# Altium schematic symbol library SPEC_A7.SCHLIB: 116 symbols (part 2 of 3)
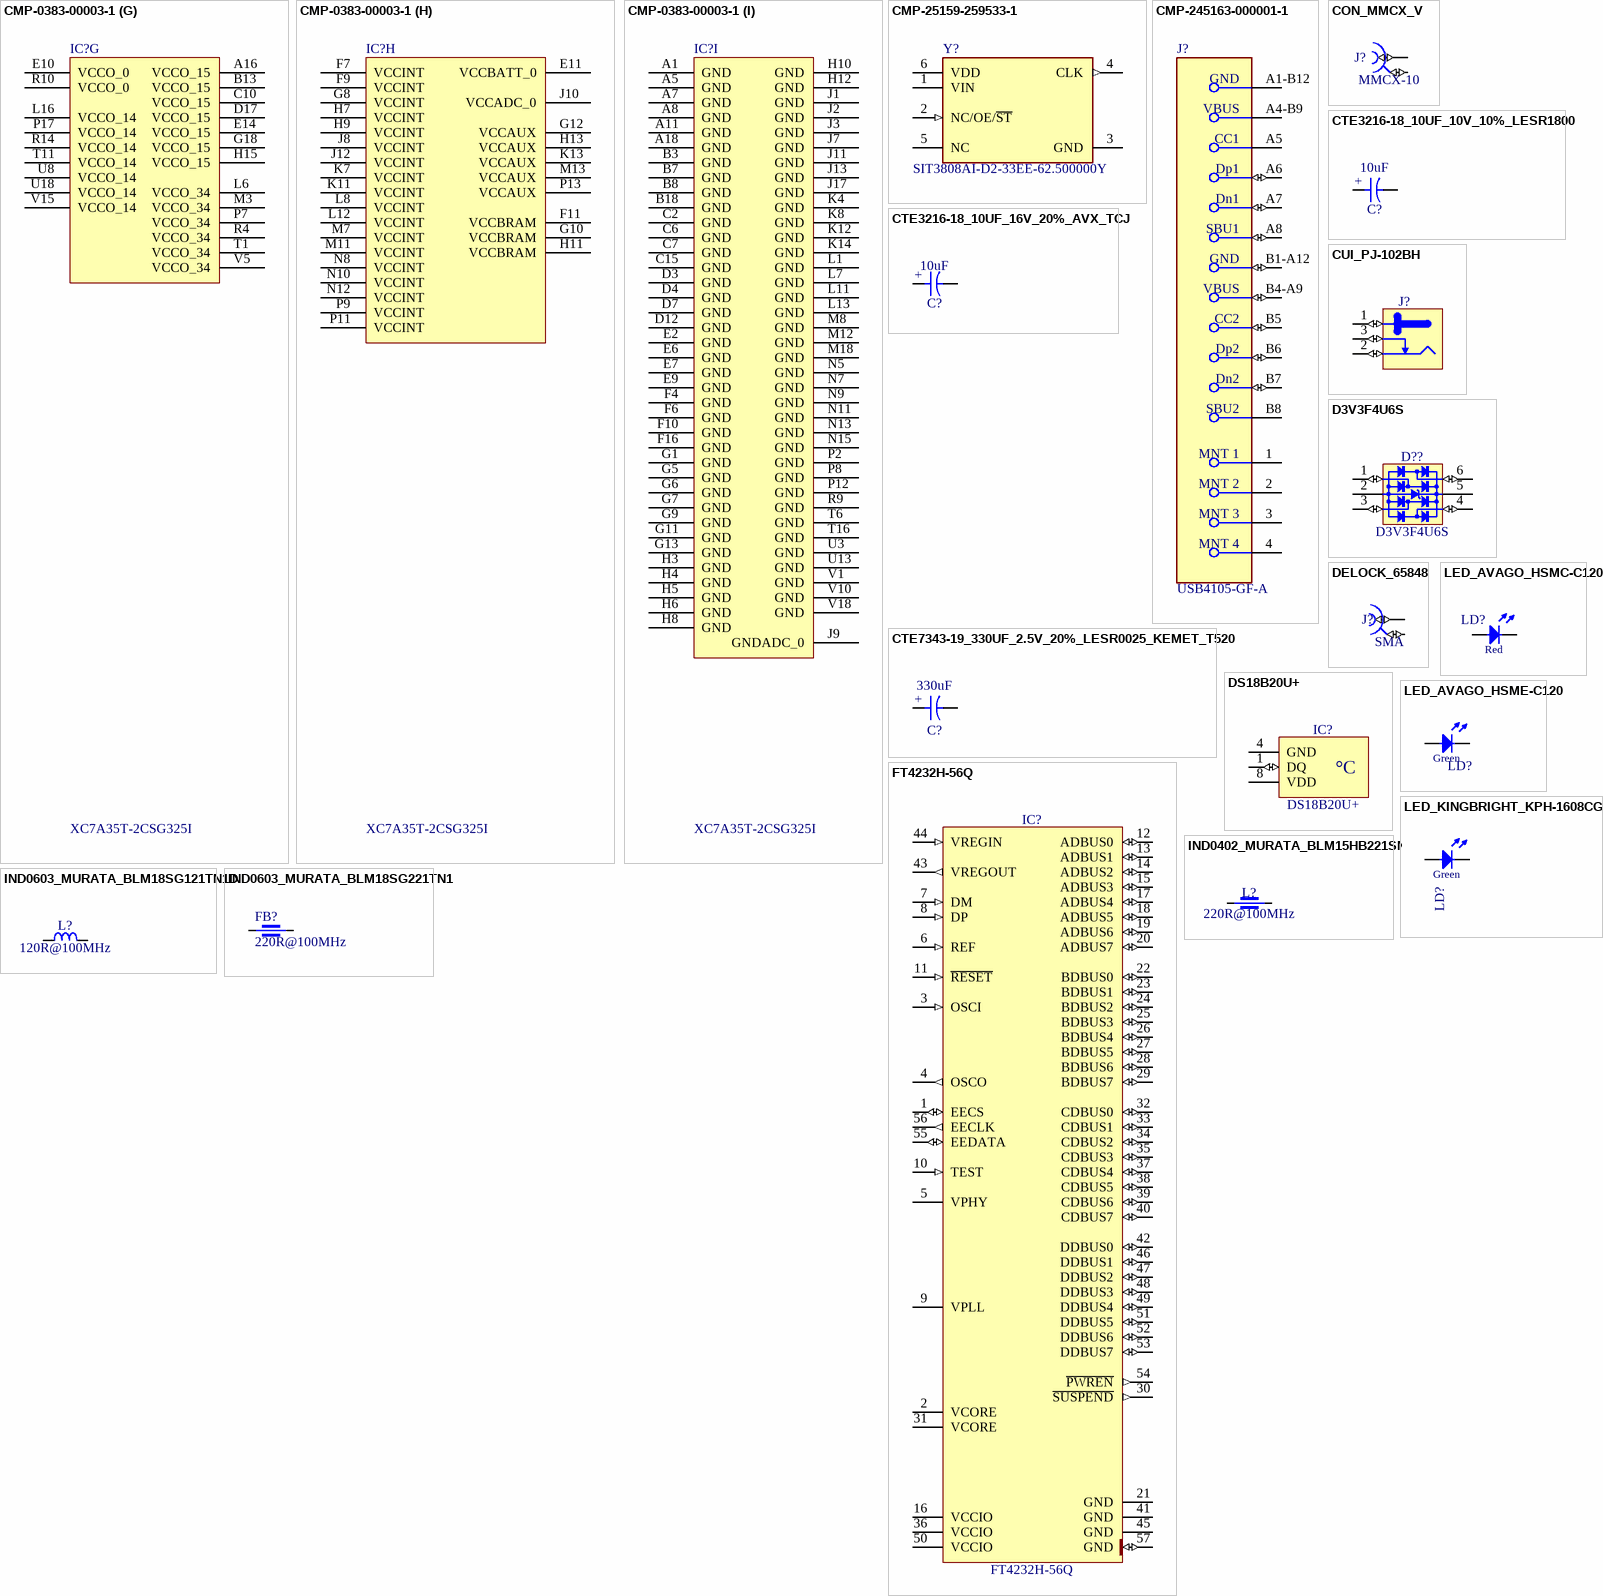
[diagram p5: symbols CMP-0383-00003-1 to LED_KINGBRIGHT_KPH-1608CGCK]

## D3V3F4U6S
designator D??
Integrated Quad Ultra-Low Capacitance ESD Protection; Part Description: 0.85pF 4 Channel Low Capacitance TVS Diode Array ESD; Manufacturer: DIODES INCORPORATED; Voltage: 8kV; PressFit: No; Bonding: No; Part Number: D3V3F4U6S; Component Kind: Standard; Component Type: Standard; Device: D3V3F4U6S; Footprint: SOT65P220X110-6N; PackageDescription: SOT363, SC70-6, 0.65mm Pitch; 6 pin, 1.25mm W X 2.00mm L X 1.10mm H body, IPC Medium Density; Manufacturer Part Number: D3V3F4U6S; Pin Count: 6; Case: SOT363; Mounted: Yes; Socket: No; SMD: Yes; Sense: No; ComponentHeight: 2.1mm; HelpURL: \\cern.ch\dfs\Applications\Altium\Datasheets\D3V3F4U6S.pdf; Author: CERN DEM HF; CreateDate: 28.11.2022; LatestRevisionDate: 28.11.2022
footprint SOT65P220X110-6N
pins: 1 I/O1 (io), 2 GND (power), 3 I/O2 (io), 4 I/O3 (io), 5 VBUS (power), 6 I/O4 (io)

## DELOCK_65848
designator J?, comment SMA
50 Ohm Through Hole SMA Right Angle PCB Jack; Part Number: DELOCK_65848; Manufacturer: DELOCK; Manufacturer Part Number: 5848 (4043619658480); PressFit: No; Component Kind: Standard; Component Type: Standard; Footprint: DELOCK_65848; Pin Count: 5; Family: SMA; Mounted: Yes; Socket: No; SMD: No; Sense: No; Status: None; Part Description: 50 Ohm Through Hole SMA Right Angle PCB Jack; ComponentHeight: 12.5; HelpURL: \\cern.ch\dfs\Applications\Altium\Datasheets\AMPHENOL_132203-16.pdf; Author: GK; CreateDate: 13.05.2019; LatestRevisionDate: 13.05.2019
footprint DELOCK_65848 (Footprint not found)
pins: 1 (io), 2 (io)

## DS18B20U+
designator IC?
Programmable Resolution 1-Wire Digital Thermometer; Part Description: Programmable Resolution 1-Wire Digital Thermometer (-55°C to +125°C); Manufacturer: DALLAS MAXIM; PressFit: No; Bonding: No; Part Number: DS18B20U+; Component Kind: Standard; Component Type: Standard; Device: DS18B20U+; Footprint: SOP65P490X110-8N; PackageDescription: SOP, 0.65mm Pitch; 8 Pin, 3.00mm W X 3.00mm L X 1.10mm H body, IPC Medium Density; Manufacturer Part Number: DS18B20U; Pin Count: 3; Case: uSOP8; Mounted: Yes; Socket: No; SMD: Yes; Sense: No; ComponentHeight: 1.1mm; HelpURL: \\cern.ch\dfs\Applications\Altium\Datasheets\DS18B20U+.pdf; Author: CERN DEM JLC; CreateDate: 17.03.2010; LatestRevisionDate: 22.06.2023
footprint SOP65P490X110-8N
pins: 1 DQ (io), 4 GND (power), 8 VDD (power)
text: °C

## FT4232H-56Q
designator IC?
Quad High Speed USB to Multipurpose UART/MPSSE IC; Manufacturer: FUTURE TECHNOLOGY DEVICES INTERNATIONAL (FTDI); PressFit: No; Bonding: No; Part Number: FT4232H-56Q; Component Kind: Standard; Component Type: Standard; Device: FT4232H-56Q; Footprint: QFN50P800X800X100-57N-S620; PackageDescription: QFN, 0.50mm Pitch, Square; 56 Pin, 8.00mm L X 8.00mm W X 1.00mm H body (6.1mm X 6.1mm Thermal tab), IPC Medium Density; Part Description: Quad High Speed USB to Multipurpose UART/MPSSE IC; Manufacturer Part Number: FT4232H-56Q; Pin Count: 57; Case: QFN56; Mounted: Yes; Socket: No; SMD: Yes; Sense: No; ComponentHeight: 1mm; Author: CERN DEM JLC; HelpURL: \\cern.ch\dfs\Applications\Altium\Datasheets\FT4232H-56Q.pdf; CreateDate: 11.10.2016; LatestRevisionDate: 11.10.2016
footprint QFN50P800X800X100-57N-S620
pins: 1 EECS (io), 2 VCORE (power), 3 OSCI (in), 4 OSCO (out), 5 VPHY (power), 6 REF (in), 7 DM (in), 8 DP (in), 9 VPLL (power), 10 TEST (in), 11 ~{RESET} (in), 12 ADBUS0 (io), 13 ADBUS1 (io), 14 ADBUS2 (io), 15 ADBUS3 (io), 16 VCCIO (power), 17 ADBUS4 (io), 18 ADBUS5 (io), 19 ADBUS6 (io), 20 ADBUS7 (io), 21 GND (power), 22 BDBUS0 (io), 23 BDBUS1 (io), 24 BDBUS2 (io), 25 BDBUS3 (io), 26 BDBUS4 (io), 27 BDBUS5 (io), 28 BDBUS6 (io), 29 BDBUS7 (io), 30 ~{SUSPEND} (out), 31 VCORE (power), 32 CDBUS0 (io), 33 CDBUS1 (io), 34 CDBUS2 (io), 35 CDBUS3 (io), 36 VCCIO (power), 37 CDBUS4 (io), 38 CDBUS5 (io), 39 CDBUS6 (io), 40 CDBUS7 (io), 41 GND (power), 42 DDBUS0 (io), 43 VREGOUT (out), 44 VREGIN (in), 45 GND (power), 46 DDBUS1 (io), 47 DDBUS2 (io), 48 DDBUS3 (io), 49 DDBUS4 (io), 50 VCCIO (power), 51 DDBUS5 (io), 52 DDBUS6 (io), 53 DDBUS7 (io), 54 ~{PWREN} (out), 55 EEDATA (io), 56 EECLK (out), 57 GND (io)

## IND0402_MURATA_BLM15HB221SN1
designator L?, comment 220R@100MHz
Part Number: IND0402_MURATA_BLM15HB221SN1; Part Description: SMD EMIFIL Suppression Chip Ferrite Bead; Manufacturer: MURATA; Manufacturer Part Number: BLM15HB221SN1; Power: 250mA; Resistance: 1R; Tolerance: ±25%; Component Kind: Standard; Component Type: Standard; Footprint: INDC1005X55N; Pin Count: 2; Value: 220R@100MHz; Status: None; Case: 0402; Mounted: Yes; Socket: No; SMD: Yes; Sense: No; ComponentHeight: 0.55mm; HelpURL: \\cern.ch\dfs\Applications\Altium\Datasheets\IND0402_MURATA_BLM15H.pdf; Author: CERN DEM JLC; CreateDate: 23.06.2009; LatestRevisionDate: 25.10.2018
footprint INDC1005X55N
pins: 1, 2
1 alternate drawing of the same symbol

## IND0603_MURATA_BLM18SG121TN1D
designator L?, comment 120R@100MHz
Inductor; Part Number: IND0603_MURATA_BLM18SG121TN1D; Part Description: SMD EMIFIL Suppression Chip Ferrite Bead; Manufacturer: MURATA; Manufacturer Part Number: BLM18SG121TN1D; Power: 3A; Resistance: 0.025R; Tolerance: ±25%; Component Kind: Standard; Component Type: Standard; Footprint: INDC1608X65N; Pin Count: 2; Value: 120R@100MHz; Status: None; Case: 0603; Mounted: Yes; Socket: No; SMD: Yes; Sense: No; ComponentHeight: 0.65mm; HelpURL: \\cern.ch\dfs\Applications\Altium\Datasheets\IND0603_MURATA_BLM18S.pdf; Author: CERN DEM JLC; CreateDate: 23.07.2014; LatestRevisionDate: 23.07.2014
footprint INDC1608X65N
pins: 1, 2

## IND0603_MURATA_BLM18SG221TN1
designator FB?, comment 220R@100MHz
Part Number: IND0603_MURATA_BLM18SG221TN1; Part Description: SMD EMIFIL Suppression Chip Ferrite Bead; Manufacturer: MURATA; Manufacturer Part Number: BLM18SG221TN1; Tolerance: ±25%; Power: 2.5A; Resistance: 0.04R; Component Kind: Standard; Component Type: Standard; Footprint: INDC1608X95N; Pin Count: 2; Value: 220R@100MHz; Case: 0603; Mounted: Yes; Socket: No; SMD: Yes; Sense: No; ComponentHeight: 0.95mm; HelpURL: \\cern.ch\dfs\Applications\Altium\Datasheets\IND0603_MURATA_BLM18S.pdf; Author: CERN DEM MR; CreateDate: 08.01.2016; LatestRevisionDate: 25.10.2018
footprint INDC1608X95N
pins: 1, 2
1 alternate drawing of the same symbol

## LED_AVAGO_HSMC-C120
designator LD?, comment Red
LED Red 1C 2A; Part Number: LED_AVAGO_HSMC-C120; Part Description: High Performance Right Angle Chip Red LED; Manufacturer: AVAGO TECHNOLOGIES; Manufacturer Part Number: HSMC-C120; PressFit: No; Bonding: No; Component Kind: Standard; Component Type: Standard; Color: Red; Footprint: LED_AVAGO_HSMC-C120; PackageDescription: Red Chip LED, 2-Leads, Body 1.7x1.1mm, Side Emitting Package; Pin Count: 2; Mounted: Yes; Socket: No; SMD: Yes; Sense: No; ComponentHeight: 0.7mm; HelpURL: \\cern.ch\dfs\Applications\Altium\Datasheets\LED_AVAGO_HSMC-C120.pdf; ComponentLink1URL: \\cern.ch\dfs\Applications\Altium\Datasheets\LED_AVAGO_HSMC-C120_DESIGN-GUIDE.pdf; ComponentLink1Description: Design Guide; Author: CERN DEM JMW; CreateDate: 22.07.2009; LatestRevisionDate: 20.06.2012
footprint LED_AVAGO_HSMC-C120
pins: 1 C, 2 A
1 alternate drawing of the same symbol

## LED_AVAGO_HSME-C120
designator LD?, comment Green  (value not drawn)
LED Green 1C 2A; Part Number: LED_AVAGO_HSME-C120; Part Description: High Performance Right Angle Chip Green LED; Manufacturer: AVAGO TECHNOLOGIES; Manufacturer Part Number: HSME-C120; PressFit: No; Bonding: No; Component Kind: Standard; Component Type: Standard; Color: Green; Footprint: LED_AVAGO_HSME-C120; PackageDescription: Green Chip LED, 2-Leads, Body 1.7x1.1mm, Side Emitting Package; Pin Count: 2; Mounted: Yes; Socket: No; SMD: Yes; Sense: No; ComponentHeight: 0.7mm; HelpURL: \\cern.ch\dfs\Applications\Altium\Datasheets\LED_AVAGO_HSME-C120.pdf; ComponentLink1URL: \\cern.ch\dfs\Applications\Altium\Datasheets\LED_AVAGO_HSME-C110_DESIGN-GUIDE.pdf; ComponentLink1Description: Design Guide; Author: CERN DEM JMW; CreateDate: 22.07.2009; LatestRevisionDate: 20.06.2012
footprint LED_AVAGO_HSME-C120
pins: 1 C, 2 A

## LED_KINGBRIGHT_KPH-1608CGCK
designator LD?, comment Green
LED Green 1C 2A; Manufacturer Part Number: KPH-1608CGCK; Part Number: LED_KINGBRIGHT_KPH-1608CGCK; Part Description: SMD Green LED, Case 1.6mmX0.8mm(0603), 0.65mm Thickness; Manufacturer: KINGBRIGHT; PressFit: No; Bonding: No; ComponentHeight: 0.65mm; HelpURL: \\cern.ch\dfs\Applications\Altium\Datasheets\LED_KINGBRIGHT_KPH-1608CGCK.pdf; Component Kind: Standard; Component Type: Standard; Color: Green; Footprint: LED_KINGBRIGHT_KPH-1608CGCK; PackageDescription: SMT Green LED, Case 0603, Body L 1.6 x W 0.8mm H 0.65mm; Pin Count: 2; Mounted: Yes; Socket: No; SMD: Yes; Sense: No; Author: CERN DEM JLC; CreateDate: 03.07.2017; LatestRevisionDate: 03.07.2017
footprint LED_KINGBRIGHT_KPH-1608CGCK
pins: 1 C, 2 A
1 alternate drawing of the same symbol

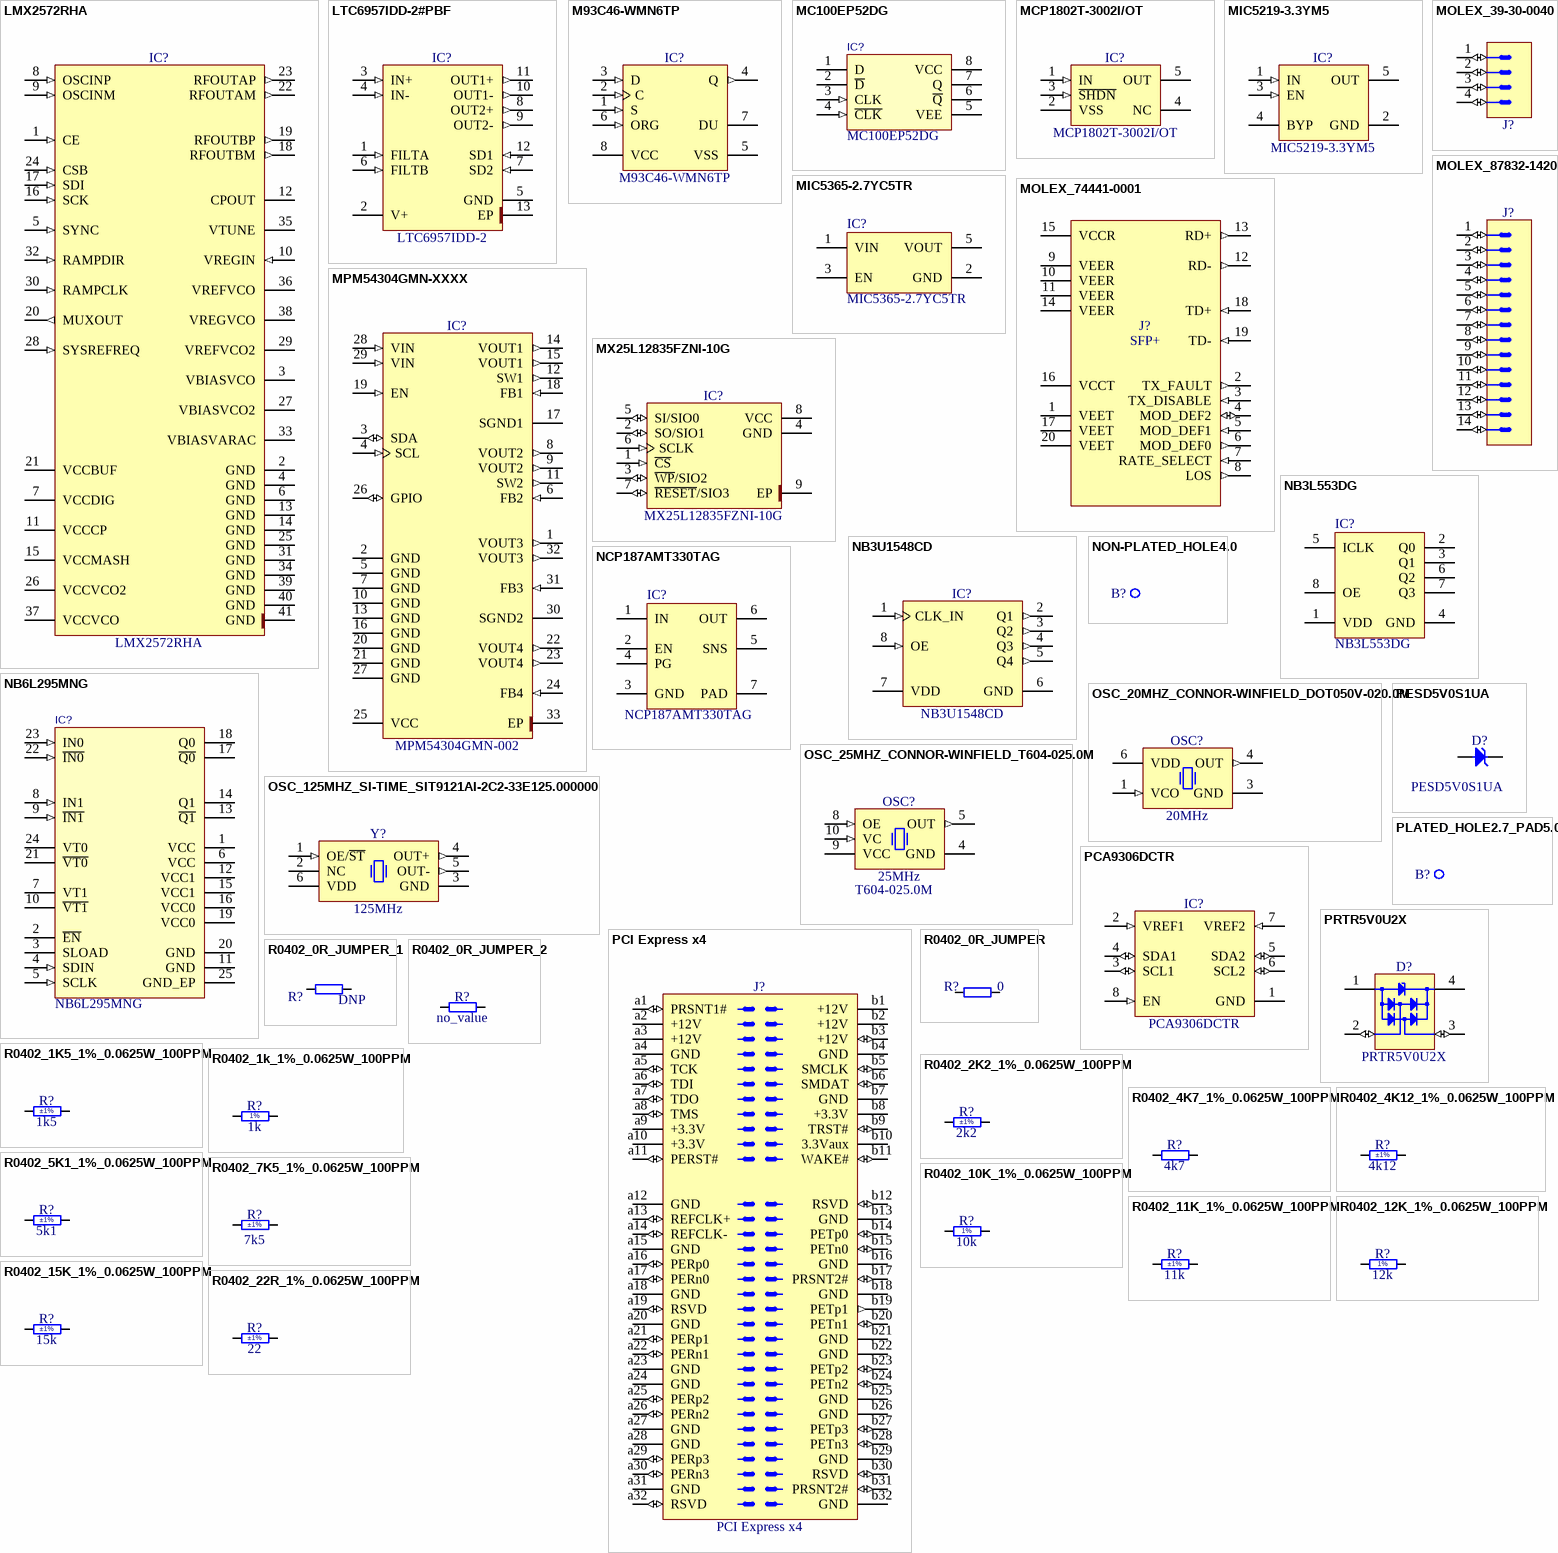
[diagram p3: symbols LMX2572RHA to R0402_22R_1%_0.0625W_100PPM]

## LMX2572RHA
designator IC?
15GHz Wideband PLLatinum RF Synthesizer with Phase Synchronization and JESD204B Support; Part Description: Low power wideband RF synthesizer with phase synchronization and JESD204B support; Manufacturer: TEXAS INSTRUMENTS; PressFit: No; Bonding: No; Part Number: LMX2572RHA; Component Kind: Standard; Component Type: Standard; Device: LMX2572RHA; Footprint: QFN50P600X600X100-41N-S460; PackageDescription: QFN, 0.50mm Pitch, Square; 40 Pin, 6.00mm L X 6.00mm W X 1.00mm H body (w/Thermal Tab 4.60 x 4.60mm), IPC Medium Density; Manufacturer Part Number: LMX2572RHA; Pin Count: 41; Case: QFN40; Mounted: Yes; Socket: No; SMD: Yes; Sense: No; ComponentHeight: 1mm; Author: CERN DEM HF; HelpURL: \\cern.ch\dfs\Applications\Altium\Datasheets\LMX2572.pdf; CreateDate: 15.04.2024; LatestRevisionDate: 15.04.2024
footprint QFN50P600X600X100-41N-S460
pins: 1 CE (in), 2 GND (power), 3 VBIASVCO, 4 GND (power), 5 SYNC (in), 6 GND (power), 7 VCCDIG (power), 8 OSCINP (in), 9 OSCINM (in), 10 VREGIN (in), 11 VCCCP (power), 12 CPOUT, 13 GND (power), 14 GND (power), 15 VCCMASH (power), 16 SCK (in), 17 SDI (in), 18 RFOUTBM (out), 19 RFOUTBP (out), 20 MUXOUT (out), 21 VCCBUF (power), 22 RFOUTAM (out), 23 RFOUTAP (out), 24 CSB (in), 25 GND (power), 26 VCCVCO2 (power), 27 VBIASVCO2, 28 SYSREFREQ (in), 29 VREFVCO2, 30 RAMPCLK (in), 31 GND (power), 32 RAMPDIR (in), 33 VBIASVARAC, 34 GND (power), 35 VTUNE, 36 VREFVCO, 37 VCCVCO (power), 38 VREGVCO, 39 GND (power), 40 GND (power), 41 GND (power)

## LTC6957IDD-2#PBF
designator IC?, comment LTC6957IDD-2
Low Phase Noise, Dual Output Buffer/Driver/Logic Converter, LVDS Logic Outputs; Part Number: LTC6957IDD-2#PBF; Manufacturer: LINEAR TECHNOLOGY; PressFit: No; Bonding: No; Component Kind: Standard; Component Type: Standard; Device: LTC6957IDD-2; Footprint: SON45P300X300X80-13N-R175X248; PackageDescription: SON, 0.45mm Pitch; 12 Pin, 3.00mm W X 3.00mm L X 0.80mm H Body (w/Thermal tab 1.75 x 2.48mm), IPC Medium Density; Part Description: Low Phase Noise, Dual Output Buffer/Driver/Logic Converter, LVDS Logic Outputs; Manufacturer Part Number: LTC6957IDD-2; Pin Count: 13; Case: SON12; Mounted: Yes; Socket: No; SMD: Yes; Sense: No; ComponentHeight: 0.8mm; Author: CERN DEM MR; HelpURL: \\cern.ch\dfs\Applications\Altium\Datasheets\LTC6957IDD-2#PBF.pdf; CreateDate: 12.09.2016; LatestRevisionDate: 02.02.2022
footprint SON45P300X300X80-13N-R175X248
pins: 1 FILTA (in), 2 V+ (power), 3 IN+ (in), 4 IN- (in), 5 GND (power), 6 FILTB (in), 7 SD2 (in), 8 OUT2+ (out), 9 OUT2- (out), 10 OUT1- (out), 11 OUT1+ (out), 12 SD1 (in), 13 EP (power)

## M93C46-WMN6TP
designator IC?
2.5 to 5.5 V, 1Kb (128x8) Serial Microwire Bus EEPROM; Part Description: 1Kbit (128 x 8 bit or 64 x 16 bit) MICROWIRE® Serial Access EEPROM; Manufacturer: ST MICROELECTRONICS; PressFit: No; Bonding: No; Part Number: M93C46-WMN6TP; Component Kind: Standard; Component Type: Standard; Device: M93C46-WMN6TP; Footprint: SOIC127P600X175-8N; PackageDescription: SOIC 8, Pitch 1.27mm - Body 4x5mm, IPC Medium Density; Manufacturer Part Number: M93C46-WMN6TP; Pin Count: 8; Case: SOIC8; Mounted: Yes; Socket: No; SMD: Yes; Sense: No; ComponentHeight: 1.75mm; HelpURL: \\cern.ch\dfs\Applications\Altium\Datasheets\M93C46-WMN6TP.pdf; Author: CERN DEM JLC; CreateDate: 15.11.2012; LatestRevisionDate: 15.11.2012
footprint SOIC127P600X175-8N
pins: 1 S (in), 2 C (in), 3 D (in), 4 Q (out), 5 VSS (power), 6 ORG (in), 7 DU, 8 VCC (power)

## MC100EP52DG
designator IC?
Manufacturer_Name: onsemi; Reference: IC; Footprint: SOIC127P600X175-8N; Datasheet: http://www.onsemi.com/pub/Collateral/MC10EP52-D.PDF; Height: 1.75; Mouser Part Number: 863-MC100EP52DG; Mouser Price/Stock: https://www.mouser.co.uk/ProductDetail/onsemi/MC100EP52DG?qs=zorda86t5M%2FLiRmjo16XeQ%3D%3D; Manufacturer_Part_Number: MC100EP52DG; Value: MC100EP52DG
footprint SOIC127P600X175-8N (SOIC 8, Pitch 1.27mm - Body 4x5mm, IPC Medium Density)
pins: 1 D, 2 ~{D}, 3 CLK (in), 4 ~{CLK} (in), 5 VEE, 6 ~{Q}, 7 Q, 8 VCC (power)

## MCP1802T-3002I/OT
designator IC?
300mA, High PSRR, Low Quiescent Current LDO; Part Description: 3V, 300mA, High PSRR, Low Quiescent Current LDO; Manufacturer: MICROCHIP TECHNOLOGY; PressFit: No; Bonding: No; Part Number: MCP1802T-3002I/OT; Component Kind: Standard; Component Type: Standard; Device: MCP1802T-3002I/OT; Footprint: SOT95P270X145-5N; PackageDescription: SOT, 0.95mm Pitch; 5 Pin,1.55mm W X 2.90mm L X 1.45mm H body, IPC Medium Density; Manufacturer Part Number: MCP1802T-3002I/OT; Pin Count: 3; Case: SOT23-5; Mounted: Yes; Socket: No; SMD: Yes; Sense: No; ComponentHeight: 1.45mm; HelpURL: \\cern.ch\dfs\Applications\Altium\Datasheets\MCP1802T-3002I-OT.pdf; Author: CERN DEM JLC; CreateDate: 03.05.2012; LatestRevisionDate: 17.09.2014
footprint SOT95P270X145-5N
pins: 1 IN (in), 2 VSS (power), 3 ~{SHDN} (in), 4 NC, 5 OUT (power)

## MIC5219-3.3YM5
designator IC?
500mA Peak Output LDO Regulator; Part Description: 3.3V 500mA Peak Output Low Drop-Out  (LDO) Regulator; Manufacturer: MICROCHIP TECHNOLOGY; PressFit: No; Bonding: No; Part Number: MIC5219-3.3YM5; Component Kind: Standard; Component Type: Standard; Device: MIC5219-3.3YM5; Footprint: SOT95P280X145-5N; PackageDescription: SOT, 0.95mm pitch; 5 pin, 1.60mm W X 2.90mm L X 1.45mm H body, IPC Medium Density; Manufacturer Part Number: MIC5219-3.3YM5; Pin Count: 5; Case: SOT23-5; Mounted: Yes; Socket: No; SMD: Yes; Sense: No; ComponentHeight: 1.45mm; HelpURL: \\cern.ch\dfs\Applications\Altium\Datasheets\MIC5219-3.3YM5.pdf; Author: CERN DEM WB; CreateDate: 2019-04-16; LatestRevisionDate: 2019-04-16
footprint SOT95P280X145-5N
pins: 1 IN (in), 2 GND (power), 3 EN (in), 4 BYP, 5 OUT (power)

## MIC5365-2.7YC5TR
designator IC?
footprint SOT65P210X110-5N (SOT353, SC70-5, SOT, 0.65mm Pitch, 5 Pin, 1.25mm W X 2.00mm L X 1.10mm H, IPC Medium Density)
pins: 1 VIN, 2 GND, 3 EN, 5 VOUT

## MOLEX_39-30-0040
designator J?, comment Mini-Fit Jr.™  (value not drawn)
Connector 4 Male; Part Number: MOLEX_39-30-0040; Part Description: 4.20mm (.165") Pitch Mini-Fit Jr. Header, Dual Row, Right Angle with Snap-in Plastic Peg PCB Lock, 4 Circuits; Manufacturer: MOLEX; PressFit: No; Component Kind: Standard; Component Type: Standard; Footprint: MOLEX_39-30-0040; Pin Count: 4; Family: Mini-Fit Jr.™; Mounted: Yes; Socket: No; SMD: No; Sense: No; Status: None; Manufacturer Part Number: 39-30-0040; ComponentHeight: 11.4mm; HelpURL: \\cern.ch\dfs\Applications\Altium\Datasheets\MOLEX_39-30-0040.pdf; Author: CERN DEM JLC; CreateDate: 2018-10-02; LatestRevisionDate: 2018-10-02
footprint MOLEX_39-30-0040
pins: 1 (io), 2 (io), 3 (io), 4 (io)
1 alternate drawing of the same symbol

## MOLEX_74441-0001
designator J?, comment SFP+
20 Position SFP  Connector (Small Form-factor Pluggable); Part Number: MOLEX_74441-0001; Part Description: 20 Position, Pitch 0.8mm SFP Receptacle (Small Form-factor Pluggable); Manufacturer: MOLEX; Manufacturer Part Number: 74441-0001; PressFit: No; Component Kind: Standard; Component Type: Standard; Footprint: MOLEX_74441-0001; Pin Count: 20; Family: SFP+; Mounted: Yes; Socket: No; SMD: Yes; Sense: No; Status: None; ComponentHeight: 5.4mm; HelpURL: \\cern.ch\dfs\Applications\Altium\Datasheets\MOLEX_74441-0001.pdf; ComponentLink1URL: \\cern.ch\dfs\Applications\Altium\Datasheets\MOLEX_SFP_Application.pdf; ComponentLink1Description: Application; Author: CERN DEM MR; CreateDate: 03.12.2015; LatestRevisionDate: 03.12.2015
footprint MOLEX_74441-0001
pins: 1 VEET (power), 2 TX_FAULT (out), 3 TX_DISABLE (in), 4 MOD_DEF2 (io), 5 MOD_DEF1 (in), 6 MOD_DEF0 (out), 7 RATE_SELECT (in), 8 LOS (out), 9 VEER (power), 10 VEER (power), 11 VEER (power), 12 RD- (out), 13 RD+ (out), 14 VEER (power), 15 VCCR (power), 16 VCCT (power), 17 VEET (power), 18 TD+ (in), 19 TD- (in), 20 VEET (power)

## MOLEX_87832-1420
designator J?, comment Milli-Grid™  (value not drawn)
Connector 14 Male; Part Number: MOLEX_87832-1420; Part Description: 2.00mm (.079") Pitch Milli-Grid™ Header, Surface Mount, Vertical, Shrouded, 14 Circuits,with Locking Windows and Centre Polarization Slot, PCB Locator; Manufacturer: MOLEX; Manufacturer Part Number: 87832-1420; PressFit: No; Component Kind: Standard; Component Type: Standard; Footprint: MOLEX_87832-1420; Pin Count: 14; Family: Milli-Grid™; Mounted: Yes; Socket: No; SMD: Yes; Sense: No; Status: None; ComponentHeight: 7.6mm; HelpURL: \\cern.ch\dfs\Applications\Altium\Datasheets\MOLEX_87832-1420.pdf; Author: CERN DEM JLC; CreateDate: 09.09.2008; LatestRevisionDate: 09.09.2008
footprint MOLEX_87832-1420
pins: 1 (io), 2 (io), 3 (io), 4 (io), 5 (io), 6 (io), 7 (io), 8 (io), 9 (io), 10 (io), 11 (io), 12 (io), 13 (io), 14 (io)
1 alternate drawing of the same symbol

## MPM54304GMN-XXXX
designator IC?, comment MPM54304GMN-002
Quad-Output Power Module with I2C and MTP; Part Description: 4V to 16V Input, Quad-Output Power Module with I2C and MTP; Manufacturer: MPS (MONOLITIC  POWER SYSTEMS); PressFit: No; Bonding: No; Part Number: MPM54304GMN-002; Component Kind: Standard; Component Type: Standard; Device: MPM54304GMN-002; Footprint: MPS_MPM54304GMN; PackageDescription: MPS LGA-33 Case, 0.65mm Pitch, Rect.; 32 Pin, 7.00mm L X 7.00mm W X 2.10mm H body (w/Thermal Tab 3.55 X 3.55mm); Manufacturer Part Number: MPM54304GMN-002; Pin Count: 33; Case: QFN32; Mounted: Yes; Socket: No; SMD: Yes; Sense: No; ComponentHeight: 2.1mm; HelpURL: \\cern.ch\dfs\Applications\Altium\Datasheets\MPM54304GMN.pdf; Author: CERN DEM BC; CreateDate: 09.11.2020; LatestRevisionDate: 23.11.2022
footprint MPS_MPM54304GMN
pins: 1 VOUT3 (out), 2 GND (power), 3 SDA (io), 4 SCL (in), 5 GND (power), 6 FB2 (in), 7 GND (power), 8 VOUT2 (out), 9 VOUT2 (out), 10 GND (power), 11 SW2 (out), 12 SW1 (out), 13 GND (power), 14 VOUT1 (out), 15 VOUT1 (out), 16 GND (power), 17 SGND1 (power), 18 FB1 (in), 19 EN (in), 20 GND (power), 21 GND (power), 22 VOUT4 (out), 23 VOUT4 (out), 24 FB4 (in), 25 VCC (power), 26 GPIO (io), 27 GND (power), 28 VIN (in), 29 VIN (in), 30 SGND2 (power), 31 FB3 (in), 32 VOUT3 (out), 33 EP (power)

## MX25L12835FZNI-10G
designator IC?
128Mb, 3V, Serial Multi I/O Flash Memory; Part Description: 128Mb (16M x 8), 3V, CMOS MXSMIO® Serial Multi I/O Flash Memory; Manufacturer: MACRONIX; PressFit: No; Bonding: No; Part Number: MX25L12835FZNI-10G; Component Kind: Standard; Component Type: Standard; Device: MX25L12835FZNI-10G; Footprint: SON127P600X500X80-9N-R350X410; PackageDescription: SON, 1.27mm Pitch, 8 Pin, 6.00mm W X 5.00mm L X 0.80mm H body (w/Thermal Tab  3.50 X 4.10mm), IPC Medium Density; Manufacturer Part Number: MX25L12835FZNI-10G; Pin Count: 9; Case: SON8; Mounted: Yes; Socket: No; SMD: Yes; Sense: No; ComponentHeight: 2.16mm; HelpURL: \\cern.ch\dfs\Applications\Altium\Datasheets\MX25L12835.pdf; Author: CERN DEM HF; CreateDate: 16.04.2024; LatestRevisionDate: 16.04.2024
footprint SON127P600X500X80-9N-R350X410
pins: 1 ~{CS} (in), 2 SO/SIO1 (io), 3 ~{WP}/SIO2 (io), 4 GND (power), 5 SI/SIO0 (io), 6 SCLK (in), 7 ~{RESET}/SIO3 (io), 8 VCC (power), 9 EP (power)

## NB3L553DG
designator IC?
footprint SOIC127P600X175-8N (SOIC 8, Pitch 1.27mm - Body 4x5mm, IPC Medium Density)
pins: 1 VDD, 2 Q0, 3 Q1, 4 GND, 5 ICLK, 6 Q2, 7 Q3, 8 OE

## NB3U1548CD
designator IC?
3.3V/2.5V/1.8V/1.5V 160 MHz 1:4 LVCMOS/LVTTL Low Skew Over Voltage Tolerant Fanout Buffer; Manufacturer: ON SEMICONDUCTOR; PressFit: No; Bonding: No; Part Number: NB3U1548CD; Component Kind: Standard; Component Type: Standard; Device: NB3U1548CD; Footprint: SOIC127P600X175-8N; PackageDescription: SOIC 8, Pitch 1.27mm, Body 4x5mm, IPC Medium Density; Part Description: 3.3V/2.5V/1.8V/1.5V 160 MHz 1:4 LVCMOS/LVTTL Low Skew Over Voltage Tolerant Fanout Buffer; Manufacturer Part Number: NB3U1548CD; Pin Count: 8; Case: SOIC8; Mounted: Yes; Socket: No; SMD: Yes; Sense: No; ComponentHeight: 1.75mm; Author: CERN DEM HF; HelpURL: \\cern.ch\dfs\Applications\Altium\Datasheets\NB3U1548C.pdf; CreateDate: 29.11.2024; LatestRevisionDate: 29.11.2024
footprint SOIC127P600X175-8N
pins: 1 CLK_IN (in), 2 Q1 (out), 3 Q2 (out), 4 Q3 (out), 5 Q4 (out), 6 GND (power), 7 VDD (power), 8 OE (in)

## NB6L295MNG
designator IC?
Manufacturer_Name: onsemi; Reference: IC?; Footprint: QFN50P400X400X100-25N; Datasheet: http://www.onsemi.com/pub/Collateral/NB6L295-D.PDF; Height: 1; Mouser Part Number: 863-NB6L295MNG; Mouser Price/Stock: https://www.mouser.co.uk/ProductDetail/ON-Semiconductor/NB6L295MNG?qs=t2BMfLoP1KTcOfiCXyq1Jw%3D%3D; Manufacturer_Part_Number: NB6L295MNG; Value: NB6L295MNG
footprint QFN50P400X400X80-25N-S280 (QFN,0.50mm Pitch, Square; 24 Pin, 4.00mm W X 4.00mm L X 0.80mm H body (w/Thermal Tab 2.80 X 2.80mm), IPC Medium Density)
pins: 1 VCC (power), 2 ~{EN}, 3 SLOAD, 4 SDIN (in), 5 SCLK (in), 6 VCC (power), 7 VT1, 8 IN1 (in), 9 ~{IN1} (in), 10 ~{VT1}, 11 GND (power), 12 VCC1 (power), 13 ~{Q1}, 14 Q1, 15 VCC1 (power), 16 VCC0 (power), 17 ~{Q0}, 18 Q0, 19 VCC0 (power), 20 GND (power), 21 ~{VT0}, 22 ~{IN0} (in), 23 IN0 (in), 24 VT0, 25 GND_EP (power)

## NCP187AMT330TAG
designator IC?
footprint SON65P200X200X80-7N-R110X170 (SON, 0.65mm, Pitch; 6 Pin,2.00mm W X 2.00mm L X 0.80mm H body (W/Thermal Tab 1.1mm X 1.7mm),  IPC Medium Density)
pins: 1 IN, 2 EN, 3 GND, 4 PG, 5 SNS, 6 OUT, 7 PAD

## NON-PLATED_HOLE4.0
designator B?, comment Non Plated Hole  (value not drawn)  (no BOM)
Single Terminal Socket; Part Number: NON-PLATED_HOLE4.0; Part Description: Non Plated Through Hole: Hole Dia.=4.0mm; Mounted: No; Component Type: Standard (No BOM); Footprint: MTG400; Pin Count: 1; Family: Non Plated Hole; Socket: No; SMD: No; Sense: No; Status: None; ComponentHeight: 0mm; HelpURL: Undefined; Author: CERN DEM JMW; CreateDate: 22.03.2019; LatestRevisionDate: 22.03.2019; PackageDescription: Non Plated Through Hole: Hole Dia.=4.0mm
footprint MTG400
pins: 1 (io)

## OSC_20MHZ_CONNOR-WINFIELD_DOT050V-020.0M
designator OSC?, comment 20MHz
Oscillator 4 pins 1=VCO 3=GND 4=OUT 6=VCC; Part Number: OSC_20MHZ_CONNOR-WINFIELD_DOT050V-020.0M; Part Description: 3.3V, ±0.05ppm, 15pF, 0 to 70°C, LVCMOS, Precision Surface Mount VCTCXO Temperature Compensated Crystal Oscillator, DOT050V Series; Manufacturer: CONNOR-WINFIELD; Manufacturer Part Number: DOT050V-020.0M; PressFit: No; Bonding: No; Component Kind: Standard; Component Type: Standard; Footprint: OSC_CONNOR-WINFIELD_DOT050V; PackageDescription: SMD VCTCXO, Side Concave, 6 Pins, 9.00mm x 14.0mm, DOT050V Series; Value: 20MHz; Pin Count: 6; Mounted: Yes; Socket: No; SMD: Yes; Sense: No; ComponentHeight: 6.86mm; HelpURL: \\cern.ch\dfs\Applications\Altium\Datasheets\OSC_CONNOR-WINFIELD_DOT050V.pdf; Author: CERN DEM BC; CreateDate: 04.11.2016; LatestRevisionDate: 04.11.2016
footprint OSC_CONNOR-WINFIELD_DOT050V
pins: 1 VCO (in), 3 GND (power), 4 OUT (out), 6 VDD (power)

## OSC_25MHZ_CONNOR-WINFIELD_T604-025.0M
designator OSC?, comment 25MHz  Manufacturer Part Number: T604-025.0M
Oscillator 4 pins 4=GND 5=OUT 8=OE 9=VCC 10=VC; Part Number: OSC_25MHZ_CONNOR-WINFIELD_T604-025.0M; Part Description: 3.3V, ±0.28ppm, 15pF, -40°C to 85°C, LVCMOS,  Precision Tri-State Surface Mount VCTCXO, T Series; Manufacturer: CONNOR-WINFIELD; PressFit: No; Bonding: No; Component Kind: Standard; Component Type: Standard; Footprint: OSC_CONNOR-WINFIELD_T; PackageDescription: SMD VCTCXO, Side Concave, 10 Pins, 5.00x7.00mm, T Series; Value: 25MHz; Pin Count: 10; Mounted: Yes; Socket: No; SMD: Yes; Sense: No; ComponentHeight: 2.4mm; HelpURL: \\cern.ch\dfs\Applications\Altium\Datasheets\OSC_CONNOR-WINFIELD_T.pdf; Author: CERN DEM MR; CreateDate: 12.09.2016; LatestRevisionDate: 22.04.2021
footprint OSC_CONNOR-WINFIELD_T
pins: 4 GND (power), 5 OUT (out), 8 OE (in), 9 VCC (power), 10 VC (in)

## OSC_125MHZ_SI-TIME_SIT9121AI-2C2-33E125.000000
designator Y?, comment 125MHz
Standard Frequency Differential Oscillator; Part Number: OSC_125MHZ_SI-TIME_SIT9121AI-2C2-33E125.000000; Part Description: 3.3V, ±25ppm, -40..85°C, 3.2x5.0mm Surface Mount LVDS High Performance Differential Oscillator (SIT9121 Series); Manufacturer: SI TIME; Manufacturer Part Number: SIT9121AI-2C2-33E125.000000; PressFit: No; Bonding: No; Component Kind: Standard; Component Type: Standard; Footprint: OSC_SI-TIME_SIT9121-C; PackageDescription: SiT9121 Series Package C, Oscillators, Version 3.2.0mm x 5.0mm, Pitch 1.27mm; 6 Pin; Value: 125MHz; Pin Count: 6; Mounted: Yes; Socket: No; SMD: Yes; Sense: No; ComponentHeight: 0.8mm; HelpURL: \\cern.ch\dfs\Applications\Altium\Datasheets\OSC_SI-TIME_SIT9121.pdf; Author: CERN DEM HF; CreateDate: 06.12.2024; LatestRevisionDate: 06.12.2024
footprint OSC_SI-TIME_SIT9121-C
pins: 1 OE/~{ST} (in), 2 NC, 3 GND (power), 4 OUT+ (out), 5 OUT- (out), 6 VDD (power)

## PCA9306DCTR
designator IC?
Dual Bidirectional I2C Bus And SMBus Voltage-Level Translator; Manufacturer: TEXAS INSTRUMENTS; PressFit: No; Bonding: No; Part Number: PCA9306DCTR; Component Kind: Standard; Component Type: Standard; Device: PCA9306DCTR; Footprint: SOP65P400X130-8N; PackageDescription: SOP, 0.65mm, Pitch; 8 Pin, 2.80mm W X 2.95mm L X 1.30mm H Body, PC Medium Density; Part Description: Dual Bidirectional I2C Bus And SMBus Voltage-Level Translator; Manufacturer Part Number: PCA9306DCTR; Pin Count: 8; Case: SSOP8; Mounted: Yes; Socket: No; SMD: Yes; Sense: No; ComponentHeight: 1.3mm; Author: CERN DEM JLC; HelpURL: \\cern.ch\dfs\Applications\Altium\Datasheets\PCA9306DCTR.pdf; CreateDate: 25.02.2013; LatestRevisionDate: 11.02.2016
footprint SOP65P400X130-8N
pins: 1 GND (power) "I2C-bus SDA", 2 VREF1 (in) "Receive Signal", 3 SCL1 (io) "Transmit Signal", 4 SDA1 (io) "Negative Supply", 5 SDA2 (io) "Transmit Signal", 6 SCL2 (io) "Receive Signal", 7 VREF2 (in) "I2C-bus SCL", 8 EN (in) "Positive Supply Voltage"

## PCI Express x4
designator J?
64 contacts Board Eddge PCI Express x4 Connector; Part Description: 64 contacts Board Edge PCI Express x4 Connector; Manufacturer: PCI-SIG; Mounted: No; PressFit: No; Part Number: PCI Express x4; Component Kind: Standard (No BOM); Component Type: Standard (No BOM); Footprint: PCI Express x4; Pin Count: 64; Family: PCI Express x4; Socket: No; SMD: No; Sense: No; Status: None; ComponentHeight: 0mm; HelpURL: \\cern.ch\dfs\Applications\Altium\Datasheets\PCI Express x4.pdf; Author: CERN DEM JLC; CreateDate: 03.12.2009; LatestRevisionDate: 14.12.2011
footprint PCI Express x4
pins: a1 PRSNT1# (io), a2 +12V (power), a3 +12V (power), a4 GND (power), a5 TCK (io), a6 TDI (io), a7 TDO (io), a8 TMS (io), a9 +3.3V (power), a10 +3.3V (power), a11 PERST# (io), a12 GND (power), a13 REFCLK+ (io), a14 REFCLK- (io), a15 GND (power), a16 PERp0 (io), a17 PERn0 (io), a18 GND (power), a19 RSVD (io), a20 GND (power), a21 PERp1 (io), a22 PERn1 (io), a23 GND (power), a24 GND (power), a25 PERp2 (io), a26 PERn2 (io), a27 GND (power), a28 GND (power), a29 PERp3 (io), a30 PERn3 (io), a31 GND (power), a32 RSVD (io), b1 +12V (power), b2 +12V (power), b3 +12V (io), b4 GND (power), b5 SMCLK (io), b6 SMDAT (io), b7 GND (power), b8 +3.3V (power), b9 TRST# (io), b10 3.3Vaux (power), b11 WAKE# (io), b12 RSVD (io), b13 GND (power), b14 PETp0 (io), b15 PETn0 (io), b16 GND (power), b17 PRSNT2# (io), b18 GND (power), b19 PETp1 (out), b20 PETn1 (io), b21 GND (power), b22 GND (power), b23 PETp2 (io), b24 PETn2 (io), b25 GND (power), b26 GND (power), b27 PETp3 (io), b28 PETn3 (io), b29 GND (power), b30 RSVD (io), b31 PRSNT2# (io), b32 GND (power)

## PESD5V0S1UA
designator D?
Transient Voltage Suppressor Diode (Uni-Directional); Part Description: Unidirectional ESD Protection for Transient Voltage Suppression; Manufacturer: NXP SEMICONDUCTORS; Voltage: 5V; Power: 890W; PressFit: No; Bonding: No; Part Number: PESD5V0S1UA; Component Kind: Standard; Component Type: Standard; Device: PESD5V0S1UA; Footprint: SOD2512X110N; PackageDescription: Small Outline Diode (SOD-323), 1.70mm W X 1.25mm L X 1.10mm H body,  IPC Medium Density; Manufacturer Part Number: PESD5V0S1UA; Pin Count: 2; Case: SOD-323; Mounted: Yes; Socket: No; SMD: Yes; Sense: No; ComponentHeight: 1.1mm; HelpURL: \\cern.ch\dfs\Applications\Altium\Datasheets\PESD5V0S1UA.pdf; Author: CERN DEM JLC; CreateDate: 28.08.2012; LatestRevisionDate: 18.09.2013
footprint SOD2512X110N
pins: 1 C, 2 A

## PLATED_HOLE2.7_PAD5.0
designator B?, comment Plated Hole  (value not drawn)  (no BOM)
Single Terminal Socket; Part Number: PLATED_HOLE2.7_PAD5.0; Part Description: Plated Through Hole: Hole Dia.=2.7mm Pad Dia.=5.0mm; Mounted: No; Component Type: Standard (No BOM); Footprint: MTG270_500; Pin Count: 1; Family: Plated Hole; Socket: No; SMD: No; Sense: No; Status: None; ComponentHeight: 0mm; HelpURL: Undefined; Author: CERN DEM JMW; CreateDate: 27.09.2011; LatestRevisionDate: 27.09.2011; PackageDescription: Plated Through Hole: Hole Dia.=2.7mm Pad Dia.=5.0mm
footprint MTG270_500
pins: 1 (io)

## PRTR5V0U2X
designator D?
Ultra Low Capacitance Double Rail-to-Rail ESD Protection Diode; Part Description: Ultra Low Capacitance (1pF) Double Rail-to-Rail ESD Protection Diode (8kV); Manufacturer: NXP SEMICONDUCTORS; Voltage: 5.5V; PressFit: No; Bonding: No; Part Number: PRTR5V0U2X; Component Kind: Standard; Component Type: Standard; Device: PRTR5V0U2X; Footprint: SOT190P230X110-4N; PackageDescription: SOT143B, SOT, 1.90mm Pitch; 4 Pin, 1.30mm W X 2.90mm L X 1.10mm H body, IPC Medium Density; Manufacturer Part Number: PRTR5V0U2X; Pin Count: 4; Case: SOT143B; Mounted: Yes; Socket: No; SMD: Yes; Sense: No; ComponentHeight: 1.1mm; HelpURL: \\cern.ch\dfs\Applications\Altium\Datasheets\PRTR5V0U2X.pdf; Author: CERN DEM JLC; CreateDate: 22.03.2011; LatestRevisionDate: 22.03.2011
footprint SOT190P230X110-4N
pins: 1 GND (power), 2 I/O1 (io), 3 I/O2 (io), 4 VCC (power)

## R0402_0R_JUMPER
designator R?, comment 0
Resistor; Part Number: R0402_0R_JUMPER; Part Description: 1A (0.05R Max DC Resistance) Zero Ohm Jumper; Manufacturer: GENERIC; Manufacturer1 Part Number: 232270591001L; PressFit: No; Component Kind: Standard; Component Type: Standard; Footprint: RESC1005X40N; Pin Count: 2; Value: 0; Status: Not Recommended; Manufacturer Part Number: R0402_0R_JUMPER; Case: 0402; Mounted: Yes; Sense: No; Socket: No; SMD: Yes; Manufacturer1 Example: YAGEO PHYCOMP; Manufacturer1 ComponentHeight: 0.4mm; HelpURL: \\cern.ch\dfs\Applications\Altium\Datasheets\R0402_Phycomp_RC0402.pdf; Author: CERN DEM JLC; CreateDate: 03.12.2007; LatestRevisionDate: 17.10.2012
footprint RESC1005X40N
pins: 1, 2

## R0402_0R_JUMPER_1
designator R?, comment DNP  (no BOM)
Resistor; Part Number: R0402_0R_JUMPER; Part Description: 1A (0.05R Max DC Resistance) Zero Ohm Jumper; Manufacturer: GENERIC; Manufacturer1 Part Number: 232270591001L; PressFit: No; Component Type: Standard; Footprint: RESC1005X40N; Pin Count: 2; Value: DNP; Status: Not Recommended; Manufacturer Part Number: R0402_0R_JUMPER; Case: 0402; Mounted: Yes; Sense: No; Socket: No; SMD: Yes; Manufacturer1 Example: YAGEO PHYCOMP; Manufacturer1 ComponentHeight: 0.4mm; HelpURL: \\cern.ch\dfs\Applications\Altium\Datasheets\R0402_Phycomp_RC0402.pdf; Author: CERN DEM JLC; CreateDate: 03.12.2007; LatestRevisionDate: 17.10.2012
footprint RESC1005X40N
pins: 1, 2

## R0402_0R_JUMPER_2
designator R?, comment no_value  (no BOM)
Resistor; Part Number: R0402_0R_JUMPER; Part Description: 1A (0.05R Max DC Resistance) Zero Ohm Jumper; Manufacturer: GENERIC; Manufacturer1 Part Number: 232270591001L; PressFit: No; Component Type: Standard; Footprint: RESC1005X40N; Pin Count: 2; Value: no_value; Status: Not Recommended; Manufacturer Part Number: R0402_0R_JUMPER; Case: 0402; Mounted: Yes; Sense: No; Socket: No; SMD: Yes; Manufacturer1 Example: YAGEO PHYCOMP; Manufacturer1 ComponentHeight: 0.4mm; HelpURL: \\cern.ch\dfs\Applications\Altium\Datasheets\R0402_Phycomp_RC0402.pdf; Author: CERN DEM JLC; CreateDate: 03.12.2007; LatestRevisionDate: 17.10.2012
footprint RESC1005X40N
pins: 1, 2

## R0402_1K5_1%_0.0625W_100PPM
designator R?, comment 1k5  Tolerance: ±1%
Resistor - 1%; Part Number: R0402_1K5_1%_0.0625W_100PPM; Part Description: General Purpose Thick Film Chip Resistor; Manufacturer: GENERIC; Manufacturer1 Part Number: 232270671502L; Power: 0.0625W; TC: ±100ppm/°C; PressFit: No; Component Kind: Standard; Component Type: Standard; Footprint: RESC1005X40N; Pin Count: 2; Value: 1k5; Status: Not Recommended; Manufacturer Part Number: R0402_1K5_1%_0.0625W_100PPM; Case: 0402; Mounted: Yes; Sense: No; Socket: No; SMD: Yes; Manufacturer1 Example: YAGEO PHYCOMP; Manufacturer1 ComponentHeight: 0.4mm; HelpURL: \\cern.ch\dfs\Applications\Altium\Datasheets\R0402_Phycomp_RC0402.pdf; Author: CERN DEM JLC; CreateDate: 03.12.2007; LatestRevisionDate: 17.10.2012
footprint RESC1005X40N
pins: 1, 2

## R0402_1k_1%_0.0625W_100PPM
designator R?, comment 1k
Resistor - 1%; Part Number: R0402_1K_1%_0.0625W_100PPM; Part Description: General Purpose Thick Film Chip Resistor; Manufacturer: GENERIC; Manufacturer1 Part Number: 232270671002L; Power: 0.0625W; TC: ±100ppm/°C; PressFit: No; Component Kind: Standard; Component Type: Standard; Footprint: RESC1005X40N; Pin Count: 2; Value: 1k; Status: Not Recommended; Tolerance: ±1%; Manufacturer Part Number: R0402_1K_1%_0.0625W_100PPM; Case: 0402; Mounted: Yes; Sense: No; Socket: No; SMD: Yes; Manufacturer1 Example: YAGEO PHYCOMP; Manufacturer1 ComponentHeight: 0.4mm; HelpURL: \\cern.ch\dfs\Applications\Altium\Datasheets\R0402_Phycomp_RC0402.pdf; Author: CERN DEM JLC; CreateDate: 03.12.2007; LatestRevisionDate: 17.10.2012
footprint RESC1005X40N
pins: 1, 2
text: 1%

## R0402_2K2_1%_0.0625W_100PPM
designator R?, comment 2k2  Tolerance: ±1%
Resistor - 1%; Part Number: R0402_2K2_1%_0.0625W_100PPM; Part Description: General Purpose Thick Film Chip Resistor; Manufacturer: GENERIC; Manufacturer1 Part Number: 232270672202L; Power: 0.0625W; TC: ±100ppm/°C; PressFit: No; Component Kind: Standard; Component Type: Standard; Footprint: RESC1005X40N; Pin Count: 2; Value: 2k2; Status: Not Recommended; Manufacturer Part Number: R0402_2K2_1%_0.0625W_100PPM; Case: 0402; Mounted: Yes; Sense: No; Socket: No; SMD: Yes; Manufacturer1 Example: YAGEO PHYCOMP; Manufacturer1 ComponentHeight: 0.4mm; HelpURL: \\cern.ch\dfs\Applications\Altium\Datasheets\R0402_Phycomp_RC0402.pdf; Author: CERN DEM JLC; CreateDate: 03.12.2007; LatestRevisionDate: 17.10.2012
footprint RESC1005X40N
pins: 1, 2

## R0402_4K7_1%_0.0625W_100PPM
designator R?, comment 4k7
Resistor - 1%; Part Number: R0402_4K7_1%_0.0625W_100PPM; Part Description: General Purpose Thick Film Chip Resistor; Manufacturer: GENERIC; Manufacturer1 Part Number: 232270674702L; Power: 0.0625W; TC: ±100ppm/°C; PressFit: No; Component Kind: Standard; Component Type: Standard; Footprint: RESC1005X40N; Pin Count: 2; Value: 4k7; Status: Not Recommended; Tolerance: ±1%; Manufacturer Part Number: R0402_4K7_1%_0.0625W_100PPM; Case: 0402; Mounted: Yes; Sense: No; Socket: No; SMD: Yes; Manufacturer1 Example: YAGEO PHYCOMP; Manufacturer1 ComponentHeight: 0.4mm; HelpURL: \\cern.ch\dfs\Applications\Altium\Datasheets\R0402_Phycomp_RC0402.pdf; Author: CERN DEM JLC; CreateDate: 03.12.2007; LatestRevisionDate: 17.10.2012
footprint RESC1005X40N
pins: 1, 2

## R0402_4K12_1%_0.0625W_100PPM
designator R?, comment 4k12  Tolerance: ±1%
Resistor - 1%; Part Number: R0402_4K12_1%_0.0625W_100PPM; Part Description: General Purpose Thick Film Chip Resistor; Manufacturer: GENERIC; Manufacturer1 Part Number: 232270674122L or RC0402FR-074K12L; Power: 0.0625W; TC: ±100ppm/°C; PressFit: No; Component Kind: Standard; Component Type: Standard; Footprint: RESC1005X40N; Pin Count: 2; Value: 4k12; Status: Not Recommended; Manufacturer Part Number: R0402_4K12_1%_0.0625W_100PPM; Case: 0402; Mounted: Yes; Sense: No; Socket: No; SMD: Yes; Manufacturer1 Example: YAGEO PHYCOMP; Manufacturer1 ComponentHeight: 0.4mm; HelpURL: \\cern.ch\dfs\Applications\Altium\Datasheets\R0402_Phycomp_RC0402.pdf; Author: CERN DEM JLC; CreateDate: 24.10.2012; LatestRevisionDate: 24.10.2012
footprint RESC1005X40N
pins: 1, 2

## R0402_5K1_1%_0.0625W_100PPM
designator R?, comment 5k1  Tolerance: ±1%
Resistor - 1%; Part Number: R0402_5K1_1%_0.0625W_100PPM; Part Description: General Purpose Thick Film Chip Resistor; Manufacturer: GENERIC; Manufacturer1 Part Number: 232270675102L; Power: 0.0625W; TC: ±100ppm/°C; PressFit: No; Component Kind: Standard; Component Type: Standard; Footprint: RESC1005X40N; Pin Count: 2; Value: 5k1; Status: Not Recommended; Manufacturer Part Number: R0402_5K1_1%_0.0625W_100PPM; Case: 0402; Mounted: Yes; Sense: No; Socket: No; SMD: Yes; Manufacturer1 Example: YAGEO PHYCOMP; Manufacturer1 ComponentHeight: 0.4mm; HelpURL: \\cern.ch\dfs\Applications\Altium\Datasheets\R0402_Phycomp_RC0402.pdf; Author: CERN DEM JLC; CreateDate: 03.12.2007; LatestRevisionDate: 17.10.2012
footprint RESC1005X40N
pins: 1, 2

## R0402_7K5_1%_0.0625W_100PPM
designator R?, comment 7k5  Tolerance: ±1%
Resistor - 1%; Part Number: R0402_7K5_1%_0.0625W_100PPM; Part Description: General Purpose Thick Film Chip Resistor; Manufacturer: GENERIC; Manufacturer1 Part Number: 232270677502L; Power: 0.0625W; TC: ±100ppm/°C; PressFit: No; Component Kind: Standard; Component Type: Standard; Footprint: RESC1005X40N; Pin Count: 2; Value: 7k5; Status: Not Recommended; Manufacturer Part Number: R0402_7K5_1%_0.0625W_100PPM; Case: 0402; Mounted: Yes; Sense: No; Socket: No; SMD: Yes; Manufacturer1 Example: YAGEO PHYCOMP; Manufacturer1 ComponentHeight: 0.4mm; HelpURL: \\cern.ch\dfs\Applications\Altium\Datasheets\R0402_Phycomp_RC0402.pdf; Author: CERN DEM JLC; CreateDate: 03.12.2007; LatestRevisionDate: 17.10.2012
footprint RESC1005X40N
pins: 1, 2

## R0402_10K_1%_0.0625W_100PPM
designator R?, comment 10k
Resistor - 1%; Part Number: R0402_10K_1%_0.0625W_100PPM; Part Description: General Purpose Thick Film Chip Resistor; Manufacturer: GENERIC; Manufacturer1 Part Number: 232270671003L; Power: 0.0625W; TC: ±100ppm/°C; PressFit: No; Component Kind: Standard; Component Type: Standard; Footprint: RESC1005X40N; Pin Count: 2; Value: 10k; Status: Not Recommended; Tolerance: ±1%; Manufacturer Part Number: R0402_10K_1%_0.0625W_100PPM; Case: 0402; Mounted: Yes; Sense: No; Socket: No; SMD: Yes; Manufacturer1 Example: YAGEO PHYCOMP; Manufacturer1 ComponentHeight: 0.4mm; HelpURL: \\cern.ch\dfs\Applications\Altium\Datasheets\R0402_Phycomp_RC0402.pdf; Author: CERN DEM JLC; CreateDate: 03.12.2007; LatestRevisionDate: 17.10.2012
footprint RESC1005X40N
pins: 1, 2
text: 1%

## R0402_11K_1%_0.0625W_100PPM
designator R?, comment 11k  Tolerance: ±1%
Resistor - 1%; Part Number: R0402_11K_1%_0.0625W_100PPM; Part Description: General Purpose Thick Film Chip Resistor; Manufacturer: GENERIC; Manufacturer1 Part Number: 232270671103L; Power: 0.0625W; TC: ±100ppm/°C; PressFit: No; Component Kind: Standard; Component Type: Standard; Footprint: RESC1005X40N; Pin Count: 2; Value: 11k; Status: Not Recommended; Manufacturer Part Number: R0402_11K_1%_0.0625W_100PPM; Case: 0402; Mounted: Yes; Sense: No; Socket: No; SMD: Yes; Manufacturer1 Example: YAGEO PHYCOMP; Manufacturer1 ComponentHeight: 0.4mm; HelpURL: \\cern.ch\dfs\Applications\Altium\Datasheets\R0402_Phycomp_RC0402.pdf; Author: CERN DEM JLC; CreateDate: 03.12.2007; LatestRevisionDate: 17.10.2012
footprint RESC1005X40N
pins: 1, 2

## R0402_12K_1%_0.0625W_100PPM
designator R?, comment 12k
Resistor - 1%; Part Number: R0402_12K_1%_0.0625W_100PPM; Part Description: General Purpose Thick Film Chip Resistor; Manufacturer: GENERIC; Manufacturer1 Part Number: 232270671203L; Power: 0.0625W; TC: ±100ppm/°C; PressFit: No; Component Kind: Standard; Component Type: Standard; Footprint: RESC1005X40N; Pin Count: 2; Value: 12k; Status: Not Recommended; Tolerance: ±1%; Manufacturer Part Number: R0402_12K_1%_0.0625W_100PPM; Case: 0402; Mounted: Yes; Sense: No; Socket: No; SMD: Yes; Manufacturer1 Example: YAGEO PHYCOMP; Manufacturer1 ComponentHeight: 0.4mm; HelpURL: \\cern.ch\dfs\Applications\Altium\Datasheets\R0402_Phycomp_RC0402.pdf; Author: CERN DEM JLC; CreateDate: 03.12.2007; LatestRevisionDate: 17.10.2012
footprint RESC1005X40N
pins: 1, 2
text: 1%

## R0402_15K_1%_0.0625W_100PPM
designator R?, comment 15k  Tolerance: ±1%
Resistor - 1%; Part Number: R0402_15K_1%_0.0625W_100PPM; Part Description: General Purpose Thick Film Chip Resistor; Manufacturer: GENERIC; Manufacturer1 Part Number: CRCW040215K0FK; Power: 0.0625W; TC: ±100ppm/°C; PressFit: No; Component Kind: Standard; Component Type: Standard; Footprint: RESC1005X40N; Pin Count: 2; Value: 15k; Status: Preferred; Manufacturer Part Number: R0402_15K_1%_0.0625W_100PPM; Case: 0402; Mounted: Yes; Sense: No; Socket: No; SMD: Yes; Manufacturer1 Example: VISHAY; Manufacturer1 ComponentHeight: 0.4mm; HelpURL: \\cern.ch\dfs\Applications\Altium\Datasheets\R0402_VISHAY_CRCW e3.pdf; Author: CERN DEM JMW; CreateDate: 06.07.2015; LatestRevisionDate: 06.07.2015
footprint RESC1005X40N
pins: 1, 2

## R0402_22R_1%_0.0625W_100PPM
designator R?, comment 22  Tolerance: ±1%
Resistor - 1%; Part Number: R0402_22R_1%_0.0625W_100PPM; Part Description: General Purpose Thick Film Chip Resistor; Manufacturer: GENERIC; Manufacturer1 Part Number: 232270672209L; Power: 0.0625W; TC: ±100ppm/°C; PressFit: No; Component Kind: Standard; Component Type: Standard; Footprint: RESC1005X40N; Pin Count: 2; Value: 22; Status: Not Recommended; Manufacturer Part Number: R0402_22R_1%_0.0625W_100PPM; Case: 0402; Mounted: Yes; Sense: No; Socket: No; SMD: Yes; Manufacturer1 Example: YAGEO PHYCOMP; Manufacturer1 ComponentHeight: 0.4mm; HelpURL: \\cern.ch\dfs\Applications\Altium\Datasheets\R0402_Phycomp_RC0402.pdf; Author: CERN DEM JLC; CreateDate: 03.12.2007; LatestRevisionDate: 17.10.2012
footprint RESC1005X40N
pins: 1, 2

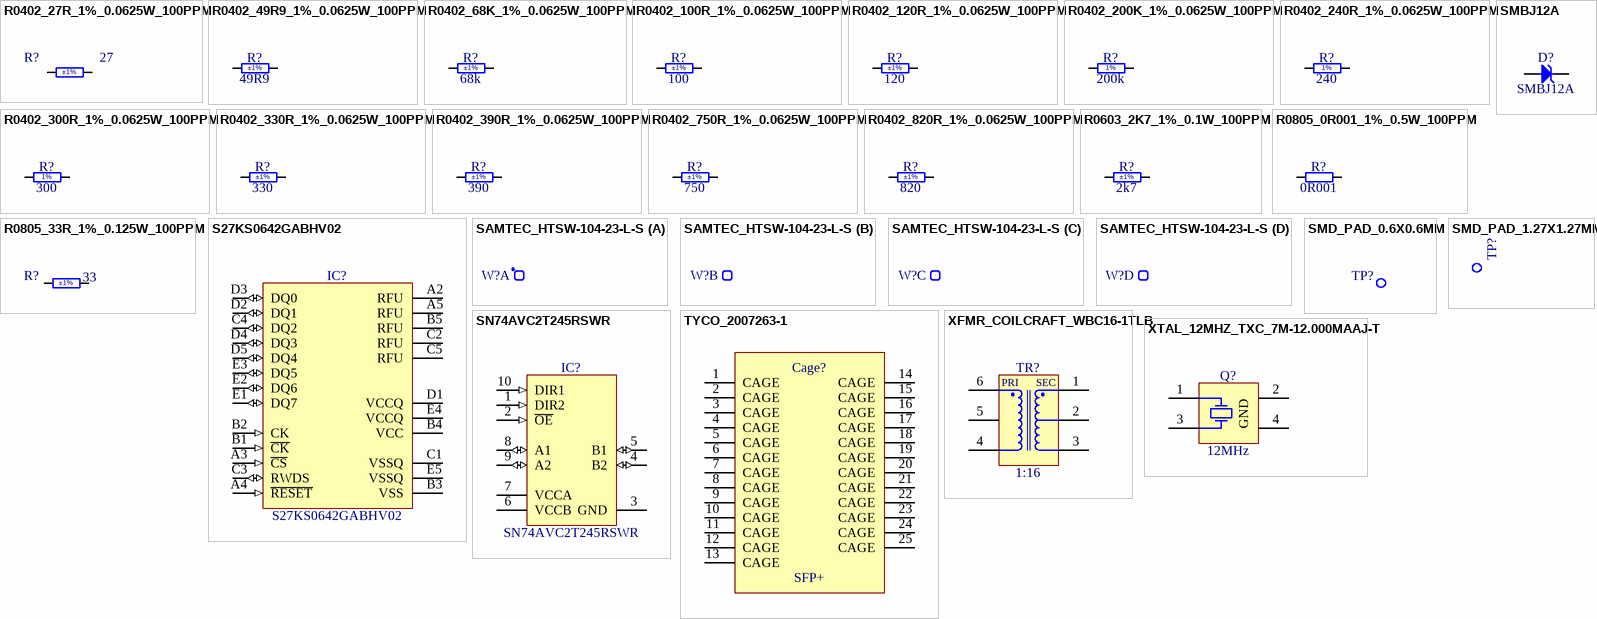
[diagram p4: symbols R0402_27R_1%_0.0625W_100PPM to XTAL_12MHZ_TXC_7M-12.000MAAJ-T]

## R0402_27R_1%_0.0625W_100PPM
designator R?, comment 27  Tolerance: ±1%
Resistor - 1%; Part Number: R0402_27R_1%_0.0625W_100PPM; Part Description: General Purpose Thick Film Chip Resistor; Manufacturer: GENERIC; Manufacturer1 Part Number: 232270672709L; Power: 0.0625W; TC: ±100ppm/°C; PressFit: No; Component Kind: Standard; Component Type: Standard; Footprint: RESC1005X40N; Pin Count: 2; Value: 27; Status: Not Recommended; Manufacturer Part Number: R0402_27R_1%_0.0625W_100PPM; Case: 0402; Mounted: Yes; Sense: No; Socket: No; SMD: Yes; Manufacturer1 Example: YAGEO PHYCOMP; Manufacturer1 ComponentHeight: 0.4mm; HelpURL: \\cern.ch\dfs\Applications\Altium\Datasheets\R0402_Phycomp_RC0402.pdf; Author: CERN DEM JLC; CreateDate: 03.12.2007; LatestRevisionDate: 17.10.2012
footprint RESC1005X40N
pins: 1, 2

## R0402_49R9_1%_0.0625W_100PPM
designator R?, comment 49R9  Tolerance: ±1%
Resistor - 1%; Part Number: R0402_49R9_1%_0.0625W_100PPM; Part Description: General Purpose Thick Film Chip Resistor; Manufacturer: GENERIC; Manufacturer1 Part Number: 232270674999L or RC0402FR-0749R9L; Power: 0.0625W; TC: ±100ppm/°C; PressFit: No; Component Kind: Standard; Component Type: Standard; Footprint: RESC1005X40N; Pin Count: 2; Value: 49R9; Status: Not Recommended; Manufacturer Part Number: R0402_49R9_1%_0.0625W_100PPM; Case: 0402; Mounted: Yes; Sense: No; Socket: No; SMD: Yes; Manufacturer1 Example: YAGEO PHYCOMP; Manufacturer1 ComponentHeight: 0.4mm; HelpURL: \\cern.ch\dfs\Applications\Altium\Datasheets\R0402_Phycomp_RC0402.pdf; Author: CERN DEM JLC; CreateDate: 24.10.2012; LatestRevisionDate: 24.10.2012
footprint RESC1005X40N
pins: 1, 2

## R0402_68K_1%_0.0625W_100PPM
designator R?, comment 68k  Tolerance: ±1%
Resistor - 1%; Part Number: R0402_68K_1%_0.0625W_100PPM; Part Description: General Purpose Thick Film Chip Resistor; Manufacturer: GENERIC; Manufacturer1 Part Number: 232270676803L; Power: 0.0625W; TC: ±100ppm/°C; PressFit: No; Component Kind: Standard; Component Type: Standard; Footprint: RESC1005X40N; Pin Count: 2; Value: 68k; Status: Not Recommended; Manufacturer Part Number: R0402_68K_1%_0.0625W_100PPM; Case: 0402; Mounted: Yes; Sense: No; Socket: No; SMD: Yes; Manufacturer1 Example: YAGEO PHYCOMP; Manufacturer1 ComponentHeight: 0.4mm; HelpURL: \\cern.ch\dfs\Applications\Altium\Datasheets\R0402_Phycomp_RC0402.pdf; Author: CERN DEM JLC; CreateDate: 03.12.2007; LatestRevisionDate: 17.10.2012
footprint RESC1005X40N
pins: 1, 2

## R0402_100R_1%_0.0625W_100PPM
designator R?, comment 100  Tolerance: ±1%
Resistor - 1%; Part Number: R0402_100R_1%_0.0625W_100PPM; Part Description: General Purpose Thick Film Chip Resistor; Manufacturer: GENERIC; Manufacturer1 Part Number: 232270671001L; Power: 0.0625W; TC: ±100ppm/°C; PressFit: No; Component Kind: Standard; Component Type: Standard; Footprint: RESC1005X40N; Pin Count: 2; Value: 100; Status: Not Recommended; Manufacturer Part Number: R0402_100R_1%_0.0625W_100PPM; Case: 0402; Mounted: Yes; Sense: No; Socket: No; SMD: Yes; Manufacturer1 Example: YAGEO PHYCOMP; Manufacturer1 ComponentHeight: 0.4mm; HelpURL: \\cern.ch\dfs\Applications\Altium\Datasheets\R0402_Phycomp_RC0402.pdf; Author: CERN DEM JLC; CreateDate: 03.12.2007; LatestRevisionDate: 17.10.2012
footprint RESC1005X40N
pins: 1, 2

## R0402_120R_1%_0.0625W_100PPM
designator R?, comment 120  Tolerance: ±1%
Resistor - 1%; Part Number: R0402_120R_1%_0.0625W_100PPM; Part Description: General Purpose Thick Film Chip Resistor; Manufacturer: GENERIC; Manufacturer1 Part Number: 232270671201L; Power: 0.0625W; TC: ±100ppm/°C; PressFit: No; Component Kind: Standard; Component Type: Standard; Footprint: RESC1005X40N; Pin Count: 2; Value: 120; Status: Not Recommended; Manufacturer Part Number: R0402_120R_1%_0.0625W_100PPM; Case: 0402; Mounted: Yes; Sense: No; Socket: No; SMD: Yes; Manufacturer1 Example: YAGEO PHYCOMP; Manufacturer1 ComponentHeight: 0.4mm; HelpURL: \\cern.ch\dfs\Applications\Altium\Datasheets\R0402_Phycomp_RC0402.pdf; Author: CERN DEM JLC; CreateDate: 03.12.2007; LatestRevisionDate: 17.10.2012
footprint RESC1005X40N
pins: 1, 2

## R0402_200K_1%_0.0625W_100PPM
designator R?, comment 200k
Resistor - 1%; Part Number: R0402_200K_1%_0.0625W_100PPM; Part Description: General Purpose Thick Film Chip Resistor; Manufacturer: GENERIC; Manufacturer1 Part Number: 232270672004L; Power: 0.0625W; TC: ±100ppm/°C; PressFit: No; Component Kind: Standard; Component Type: Standard; Footprint: RESC1005X40N; Pin Count: 2; Value: 200k; Status: Not Recommended; Tolerance: ±1%; Manufacturer Part Number: R0402_200K_1%_0.0625W_100PPM; Case: 0402; Mounted: Yes; Sense: No; Socket: No; SMD: Yes; Manufacturer1 Example: YAGEO PHYCOMP; Manufacturer1 ComponentHeight: 0.4mm; HelpURL: \\cern.ch\dfs\Applications\Altium\Datasheets\R0402_Phycomp_RC0402.pdf; Author: CERN DEM JLC; CreateDate: 03.12.2007; LatestRevisionDate: 17.10.2012
footprint RESC1005X40N
pins: 1, 2
text: 1%

## R0402_240R_1%_0.0625W_100PPM
designator R?, comment 240
Resistor - 1%; Part Number: R0402_240R_1%_0.0625W_100PPM; Part Description: General Purpose Thick Film Chip Resistor; Manufacturer: GENERIC; Manufacturer1 Part Number: 232270672401L; Power: 0.0625W; TC: ±100ppm/°C; PressFit: No; Component Kind: Standard; Component Type: Standard; Footprint: RESC1005X40N; Pin Count: 2; Value: 240; Status: Not Recommended; Tolerance: ±1%; Manufacturer Part Number: R0402_240R_1%_0.0625W_100PPM; Case: 0402; Mounted: Yes; Sense: No; Socket: No; SMD: Yes; Manufacturer1 Example: YAGEO PHYCOMP; Manufacturer1 ComponentHeight: 0.4mm; HelpURL: \\cern.ch\dfs\Applications\Altium\Datasheets\R0402_Phycomp_RC0402.pdf; Author: CERN DEM JLC; CreateDate: 03.12.2007; LatestRevisionDate: 17.10.2012
footprint RESC1005X40N
pins: 1, 2
text: 1%

## R0402_300R_1%_0.0625W_100PPM
designator R?, comment 300
Resistor - 1%; Part Number: R0402_300R_1%_0.0625W_100PPM; Part Description: General Purpose Thick Film Chip Resistor; Manufacturer: GENERIC; Manufacturer1 Part Number: 232270673001L; Power: 0.0625W; TC: ±100ppm/°C; PressFit: No; Component Kind: Standard; Component Type: Standard; Footprint: RESC1005X40N; Pin Count: 2; Value: 300; Status: Not Recommended; Tolerance: ±1%; Manufacturer Part Number: R0402_300R_1%_0.0625W_100PPM; Case: 0402; Mounted: Yes; Sense: No; Socket: No; SMD: Yes; Manufacturer1 Example: YAGEO PHYCOMP; Manufacturer1 ComponentHeight: 0.4mm; HelpURL: \\cern.ch\dfs\Applications\Altium\Datasheets\R0402_Phycomp_RC0402.pdf; Author: CERN DEM JLC; CreateDate: 03.12.2007; LatestRevisionDate: 17.10.2012
footprint RESC1005X40N
pins: 1, 2
text: 1%

## R0402_330R_1%_0.0625W_100PPM
designator R?, comment 330  Tolerance: ±1%
Resistor - 1%; Part Number: R0402_330R_1%_0.0625W_100PPM; Part Description: General Purpose Thick Film Chip Resistor; Manufacturer: GENERIC; Manufacturer1 Part Number: 232270673301L; Power: 0.0625W; TC: ±100ppm/°C; PressFit: No; Component Kind: Standard; Component Type: Standard; Footprint: RESC1005X40N; Pin Count: 2; Value: 330; Status: Not Recommended; Manufacturer Part Number: R0402_330R_1%_0.0625W_100PPM; Case: 0402; Mounted: Yes; Sense: No; Socket: No; SMD: Yes; Manufacturer1 Example: YAGEO PHYCOMP; Manufacturer1 ComponentHeight: 0.4mm; HelpURL: \\cern.ch\dfs\Applications\Altium\Datasheets\R0402_Phycomp_RC0402.pdf; Author: CERN DEM JLC; CreateDate: 03.12.2007; LatestRevisionDate: 17.10.2012
footprint RESC1005X40N
pins: 1, 2